# Altium footprint library 132134.PcbLib: 1 footprints
Each footprint in its own frame and in the unit in brackets; x right, y up, seen from the top. Pads: shape width x height; smd on the part's side, far side on the other; paste and mask are expansions set on the pad; w line width, h text height; cw(c..) or ccw(c..) is an arc to the next point about the centre after c.
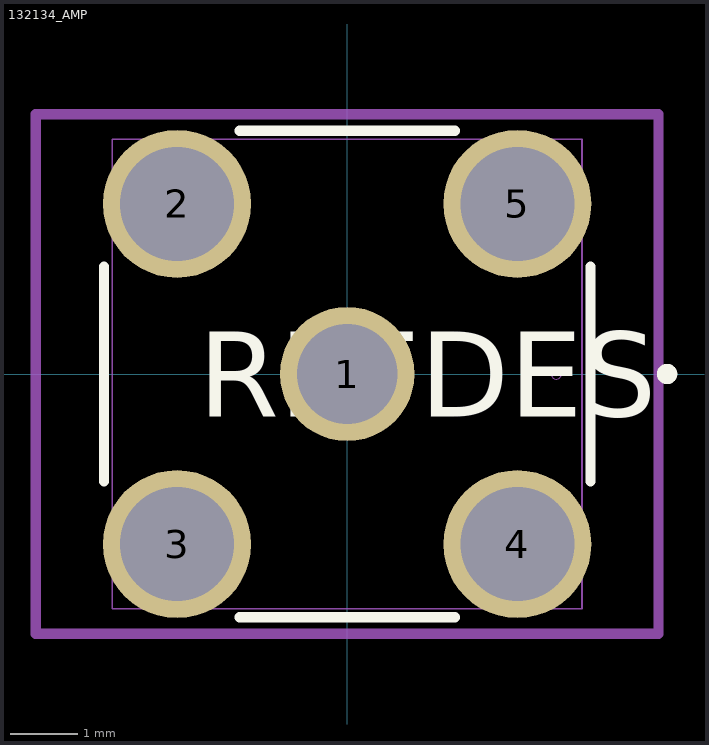
[diagram p0: the footprint, top view; thin cyan lines are the x and y axes]

## 132134_AMP [mil]
pads (5):
  round 79 / inner round 60 / far side round 79 hole 59 paste-99999 mask+0: 1(0,0)
  round 87 / inner round 60 / far side round 87 hole 67 paste-99999 mask+0: 2(-100,100) 3(-100,-100) 4(100,-100) 5(100,100)
Top Overlay:
  circle w6: c188,0 r3
  lines w6: -143,-63.2 -143,63.2 ; -63.2,-143 63.2,-143 ; -63.2,143 63.2,143 ; 143,-63.2 143,63.2
  text "REFDES" at -87.5,-25 h50
Mechanical 13:
  circle w0: c123,0 r3
  lines w1: -138,-138 -138,138 138,138 138,-138 -138,-138
  text "RefDes2" at -87.5,-25 h50
Mechanical 15:
  lines w6: -183,-152.62 183,-152.62 183,152.62 -183,152.62 -183,-152.62